# EAGLE library part MP1593DN (library tmxk)
BUCK 芯片
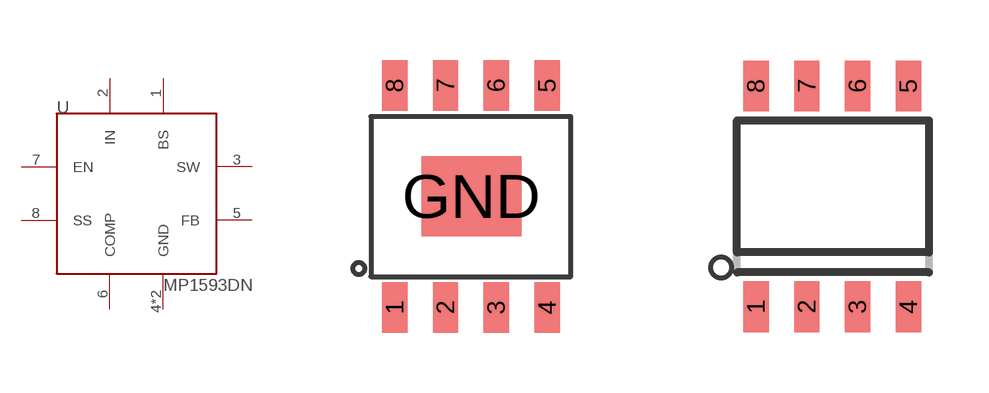
[diagram p0: symbol with the pads of SOP8-PAD; footprints SOP8-PAD, SOP8]

Designator prefix U

## MP1593DNPAD  [SOP8-PAD]
1  BS
2  IN
3  SW
4  GND
5  FB
6  COMP
7  EN
8  SS
GND  GND

## MP1593DN  [SOP8]
1  BS
2  IN
3  SW
4  GND
5  FB
6  COMP
7  EN
8  SS

## Footprint SOP8-PAD (pad centres in mm)
smd 0.635 x 1.27: 1 -1.925,-2.79; 2 -0.655,-2.79; 3 0.615,-2.79; 4 1.885,-2.79; 5 1.885,2.76; 6 0.615,2.76; 7 -0.655,2.76; 8 -1.925,2.76
smd 2.5 x 2: GND -0.01,-0.01

## Footprint SOP8 (pad centres in mm)
Small Outline Package 8 NS Package M08A
smd 0.635 x 1.27: 1 -1.925,-2.76; 2 -0.655,-2.76; 3 0.615,-2.76; 4 1.885,-2.76; 5 1.885,2.76; 6 0.615,2.76; 7 -0.655,2.76; 8 -1.925,2.76